# Altium schematic symbol library AP7313-33SAG-7.Schlib: 1 symbol
Pins are listed as number, name and electrical type; pins without a type are passive.

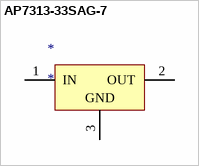
[diagram p0: symbol AP7313-33SAG-7]

## AP7313-33SAG-7
designator *
3.3V LDO
pins: 1 IN (power), 2 OUT (power), 3 GND (power)